# Altium footprint library 7-188275-4.PcbLib: 1 footprints
Each footprint in its own frame and in the unit in brackets; x right, y up, seen from the top. Pads: shape width x height; smd on the part's side, far side on the other; paste and mask are expansions set on the pad; w line width, h text height; cw(c..) or ccw(c..) is an arc to the next point about the centre after c.
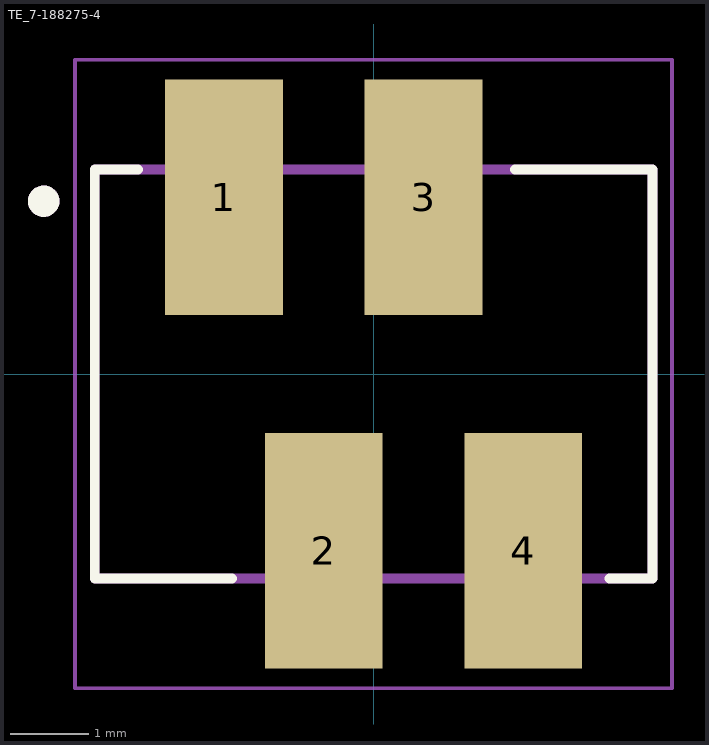
[diagram p0: the footprint, top view; thin cyan lines are the x and y axes]

## TE_7-188275-4 [mm]
pads (4):
  rect 1.5x3 smd: 1(-1.905,2.25) 2(-0.635,-2.25) 3(0.635,2.25) 4(1.905,-2.25)
Top Overlay:
  circle w0.2: c-4.2,2.2 r0.1
  lines w0.127: -3,2.6 -3.55,2.6 -3.55,-2.6 -1.8,-2.6 ; 1.8,2.6 3.55,2.6 3.55,-2.6 3,-2.6
Mechanical 13:
  circle w0.2: c-4.2,2.2 r0.1
  lines w0.127: -3.55,-2.6 3.55,-2.6 3.55,2.6 -3.55,2.6 -3.55,-2.6
Mechanical 15:
  lines w0.05: -3.8,-4 3.8,-4 3.8,4 -3.8,4 -3.8,-4
3D body "7-188275-4.stp": height 5.23, standoff -0.02, extent -3.55,-3.45 3.55,3.45